# Altium schematic symbol library LT3570EFE#PBF.Schlib: 1 symbol
Pins are listed as number, name and electrical type; pins without a type are passive.

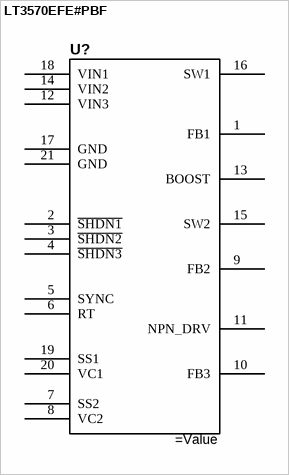
[diagram p0: symbol LT3570EFE#PBF]

## LT3570EFE#PBF
designator U?
IC REG BUCK/BST/LINEAR 20TSSOP
pins: 1 FB1, 2 ~{SHDN1}, 3 ~{SHDN2}, 4 ~{SHDN3}, 5 SYNC, 6 RT, 7 SS2, 8 VC2, 9 FB2, 10 FB3, 11 NPN_DRV, 12 VIN3, 13 BOOST, 14 VIN2, 15 SW2, 16 SW1, 17 GND, 18 VIN1, 19 SS1, 20 VC1, 21 GND